# Altium schematic symbol library ITR-20001_T.SchLib: 1 symbol
Pins are listed as number, name and electrical type; pins without a type are passive.

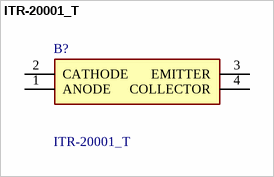
[diagram p0: symbol ITR-20001_T]

## ITR-20001_T
designator B?
Opto Interrupter; Manufacturer_Name: Everlight; Manufacturer_Part_Number: ITR-20001/T; Geometry.Height: 6.8mm; Mouser Part Number: 638-ITR20001T; Mouser Price/Stock: https://www.mouser.co.uk/ProductDetail/Everlight/ITR-20001-T?qs=8cKuZ6Ok2lYR9Tx%2FjFngeQ%3D%3D; Arrow Part Number: *; Arrow Price/Stock: *; Datasheet Link: https://www.mouser.com/datasheet/2/143/201407061627485481-597080.pdf
footprint ITR20001T
pins: 1 ANODE, 2 CATHODE, 3 EMITTER, 4 COLLECTOR